# EAGLE library part Z8038FIO (library zilog)
Z80 FAMILY DEVICE
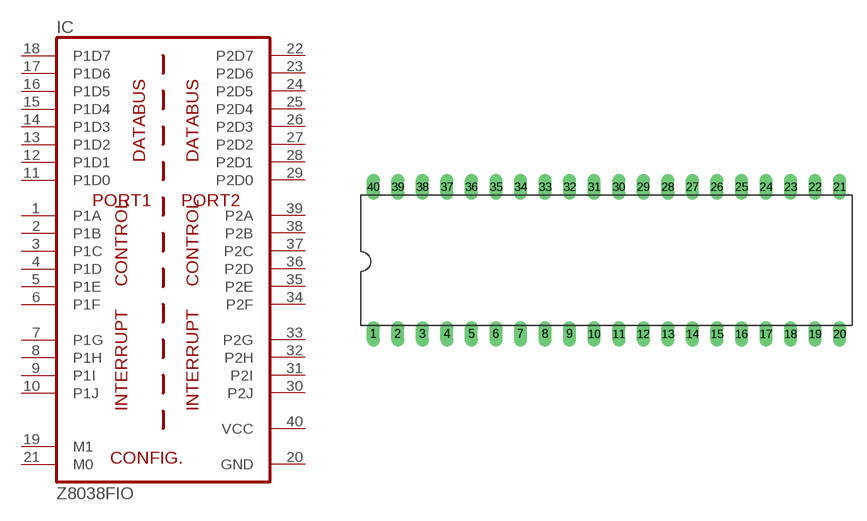
[diagram p6: symbol with the pads of DIL40; footprint DIL40]

Designator prefix IC

## Z8038FIO  [DIL40]
1  P1A  out
2  P1B  in
3  P1C  in
4  P1D  in
5  P1E  in
6  P1F  in
7  P1G  in
8  P1H  out
9  P1I  in
10  P1J  out
11  P1D0
12  P1D1
13  P1D2
14  P1D3
15  P1D4
16  P1D5
17  P1D6
18  P1D7
19  M1  in
20  GND  pwr
21  M0  in
22  P2D7
23  P2D6
24  P2D5
25  P2D4
26  P2D3
27  P2D2
28  P2D1
29  P2D0
30  P2J  out
31  P2I  in
32  P2H  out
33  P2G  in
34  P2F  in
35  P2E  in
36  P2D  in
37  P2C  in
38  P2B  in
39  P2A  out
40  VCC  pwr

## Footprint DIL40 (pad centres in mm)
Dual In Line Package
drill 0.813 long: 1 -24.13,-7.62; 2 -21.59,-7.62; 3 -19.05,-7.62; 4 -16.51,-7.62; 5 -13.97,-7.62; 6 -11.43,-7.62; 7 -8.89,-7.62; 8 -6.35,-7.62; 9 -3.81,-7.62; 10 -1.27,-7.62; 11 1.27,-7.62; 12 3.81,-7.62; 13 6.35,-7.62; 14 8.89,-7.62; 15 11.43,-7.62; 16 13.97,-7.62; 17 16.51,-7.62; 18 19.05,-7.62; 19 21.59,-7.62; 20 24.13,-7.62; 21 24.13,7.62; 22 21.59,7.62; 23 19.05,7.62; 24 16.51,7.62; 25 13.97,7.62; 26 11.43,7.62; 27 8.89,7.62; 28 6.35,7.62; 29 3.81,7.62; 30 1.27,7.62; 31 -1.27,7.62; 32 -3.81,7.62; 33 -6.35,7.62; 34 -8.89,7.62; 35 -11.43,7.62; 36 -13.97,7.62; 37 -16.51,7.62; 38 -19.05,7.62; 39 -21.59,7.62; 40 -24.13,7.62